# Altium footprint library dev.PcbLib: 112 footprints (part 5 of 7)
Each footprint in its own frame and in the unit in brackets; x right, y up, seen from the top. Pads: shape width x height; smd on the part's side, far side on the other; paste and mask are expansions set on the pad; w line width, h text height; cw(c..) or ccw(c..) is an arc to the next point about the centre after c.
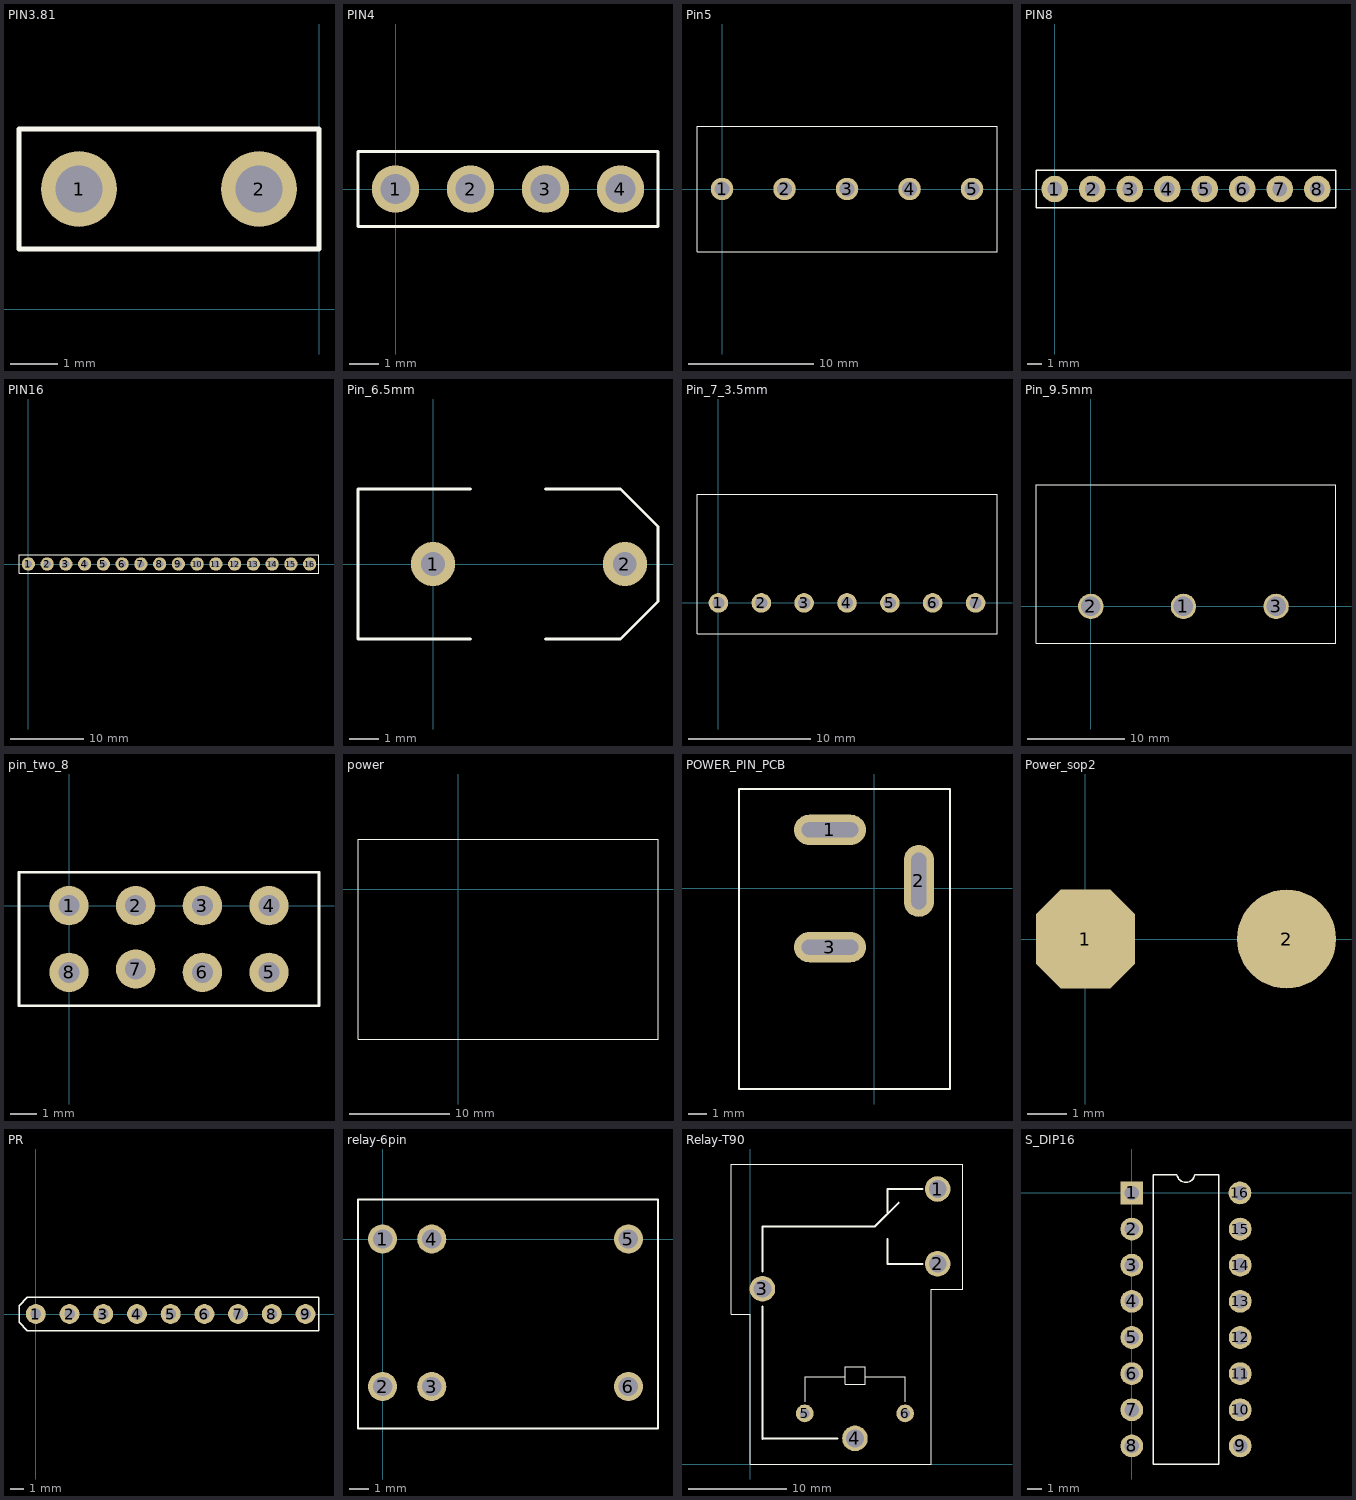
[diagram p4: the footprints below, top view; thin cyan lines are the x and y axes]

## PIN3.81 [mm]
pads (2):
  round 1.6 hole 1: 1(-5.08,2.54) 2(-1.27,2.54)
Top Overlay:
  lines w0.1: -6.35,1.27 0,1.27 0,3.81 -6.35,3.81 -6.35,1.27

## PIN4 [mm]
pads (4):
  round 1.6 hole 1: 1(0,0) 2(2.54,0) 3(5.08,0) 4(7.62,0)
Top Overlay:
  lines w0.1: -1.27,-1.27 -1.27,1.27 8.89,1.27 8.89,-1.27 -1.27,-1.27

## Pin5 [mm]
pads (5):
  round 1.8 hole 1.2: 1(0,0) 2(5,0) 3(10,0) 4(15,0) 5(20,0)
Top Overlay:
  lines w0.1: -2,-5 22,-5 22,5 -2,5 -2,-5

## PIN8 [mm]
pads (8):
  round 1.8 hole 1: 1(0,0) 2(2.54,0) 3(5.08,0) 4(7.62,0) 5(10.16,0) 6(12.7,0) 7(15.24,0) 8(17.78,0)
Top Overlay:
  lines w0.1: -1.27,-1.27 -1.27,1.27 19.05,1.27 19.05,-1.27 -1.27,-1.27

## PIN16 [mm]
pads (16):
  round 1.8 hole 1: 1(0,0) 2(2.54,0) 3(5.08,0) 4(7.62,0) 5(10.16,0) 6(12.7,0) 7(15.24,0) 8(17.78,0) 9(20.32,0) 10(22.86,0) 11(25.4,0) 12(27.94,0) 13(30.48,0) 14(33.02,0) 15(35.56,0) 16(38.1,0)
Top Overlay:
  lines w0.1: -1.27,-1.27 39.37,-1.27 39.37,1.27 -1.27,1.27 -1.27,-1.27

## Pin_6.5mm [mm]
pads (2):
  round 1.5 hole 0.8: 1(0,0) 2(6.5,0)
Top Overlay:
  lines w0.1: 1.27,-2.54 -2.54,-2.54 -2.54,2.54 1.27,2.54 ; 3.81,-2.54 6.35,-2.54 7.62,-1.27 7.62,1.27 6.35,2.54 3.81,2.54

## Pin_7_3.5mm [mm]
pads (7):
  round 1.6 hole 1: 1(0,0) 2(3.5,0) 3(7,0) 4(10.5,0) 5(14,0) 6(17.5,0) 7(21,0)
Top Overlay:
  lines w0.1: -1.75,-2.54 -1.75,8.89 22.75,8.89 22.75,-2.54 -1.75,-2.54

## Pin_9.5mm [mm]
pads (3):
  round 2.6 hole 2: 1(9.5,0) 2(0,0) 3(19,0)
Top Overlay:
  lines w0.05: -5.62,-3.8 25.14,-3.8 25.14,12.48 -5.62,12.48 -5.62,-3.8

## pin_two_8 [mm]
pads (8):
  round 1.5 hole 0.8: 1(0,0) 2(2.54,0) 3(5.08,0) 4(7.62,0) 5(7.62,-2.54) 6(5.08,-2.54) 7(2.54,-2.413) 8(0,-2.54)
Top Overlay:
  lines w0.1: -1.905,-3.81 9.525,-3.81 9.525,1.27 -1.905,1.27 -1.905,-3.81

## power [mm]
Top Overlay:
  lines w0.1: -10,-15 20,-15 20,5 -10,5 -10,-15

## POWER_PIN_PCB [mm]
pads (3):
  oval 3.8x1.6 hole 0.8 slot 3 at 0 deg: 1(-2.35,3.1) 3(-2.35,-3.1)
  oval 1.6x3.8 hole 0.8 slot 3 at 90 deg: 2(2.35,0.4)
Top Overlay:
  lines w0.1: -7.15,-10.6 4,-10.6 4,5.005 4,5.259 -7.15,5.259 -7.15,-10.6

## Power_sop2 [mm]
pads (2):
  oct 2.5x2.5 smd: 1(0,0)
  round 2.5 smd: 2(5.08,0)

## PR [mm]
pads (9):
  round 1.5 hole 0.8: 1(0,0) 2(2.54,0) 3(5.08,0) 4(7.62,0) 5(10.16,0) 6(12.7,0) 7(15.24,0) 8(17.78,0) 9(20.32,0)
Top Overlay:
  lines w0.1: 21.336,1.016 21.336,-1.016 ; 21.336,-1.016 21.336,1.27 -0.635,1.27 -1.27,0.635 -1.27,-0.635 -0.635,-1.27 21.336,-1.27 21.336,-1.016

## relay-6pin [mm]
pads (6):
  round 1.5 hole 1: 1(0,0) 2(0,-7.62) 3(2.54,-7.62) 4(2.54,0) 5(12.7,0) 6(12.7,-7.62)
Top Overlay:
  lines w0.1: -1.27,-9.779 -1.27,2.032 14.23,2.032 14.23,-9.779 -1.27,-9.779

## Relay-T90 [mm]
pads (6):
  round 2.6 hole 1.8: 1(19.05,27.94) 2(19.05,20.34) 3(1.25,17.8) 4(10.65,2.6)
  round 1.8 hole 1: 5(5.55,5.14) 6(15.75,5.14)
Top Overlay:
  lines w0.1: 5.588,6.35 5.588,8.89 9.652,8.89 ; 11.684,8.89 15.748,8.89 15.748,6.35 ; -1.905,15.24 -1.651,15.24 0,15.24 0,0 18.415,0 18.415,17.78 21.59,17.78 21.59,18.415 21.59,29.845 21.59,30.48 -1.905,30.48 -1.905,15.24 ; 9.652,8.128 9.652,9.906 11.684,9.906 11.684,8.128 9.652,8.128
  lines w0.2: 1.25,16.002 1.25,2.56 1.29,2.6 8.89,2.6 ; 1.27,19.558 1.27,24.13 4.826,24.13 10.16,24.13 12.675,24.13 15.1,26.556 ; 13.97,22.86 13.97,20.32 17.526,20.32 ; 13.97,25.4 13.97,27.94 17.526,27.94

## S_DIP16 [mm]
pads (16):
  rect 1.6x1.6 hole 1: 1(0,0)
  round 1.6 hole 1: 2(0,-2.54) 3(0,-5.08) 4(0,-7.62) 5(0,-10.16) 6(0,-12.7) 7(0,-15.24) 8(0,-17.78) 9(7.62,-17.78) 10(7.62,-15.24) 11(7.62,-12.7) 12(7.62,-10.16) 13(7.62,-7.62) 14(7.62,-5.08) 15(7.62,-2.54) 16(7.6,0)
Top Overlay:
  lines w0.1: 6.095,1.269 4.437,1.269 cw(c3.806,1.389) 3.175,1.27 1.524,1.27 1.524,-19.05 6.096,-19.05 6.096,1.27